# Altium footprint library SMCJ13CA.PCBLIB: 3 footprints
Each footprint in its own frame and in the unit in brackets; x right, y up, seen from the top. Pads: shape width x height; smd on the part's side, far side on the other; paste and mask are expansions set on the pad; w line width, h text height; cw(c..) or ccw(c..) is an arc to the next point about the centre after c.
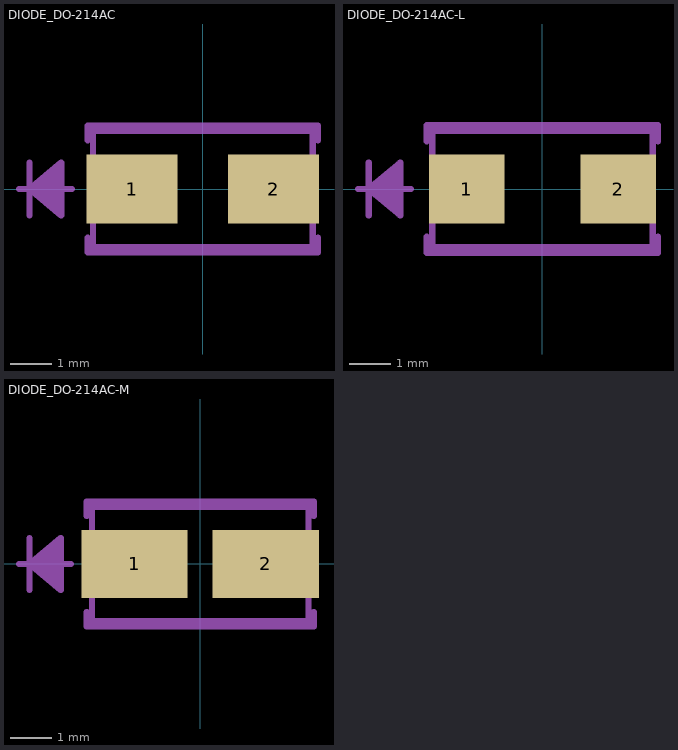
[diagram p0: the footprints below, top view; thin cyan lines are the x and y axes]

## DIODE_DO-214AC [mil]
pads (2):
  rect 86x65 smd: 1(-67,0) 2(67,0)
Mechanical 8:
  lines w6: -174,0 -164,0 ; -164,-25 -164,0 ; -164,25 -164,0 ; -134,-20 -164,0 ; -134,-15 -164,0 ; -134,-10 -164,0 ; -134,-5 -164,0 ; -134,5 -164,0 ; -134,10 -164,0 ; -134,15 -164,0 ; -134,20 -164,0 ; -124,0 -164,0 ; -164,0 -134,25 -134,-25 -164,0 ; -104,-55 104,-55 104,55 -104,55 -104,-55
Mechanical 22:
  lines w6: -174,0 -164,0 ; -164,-25 -164,0 ; -164,25 -164,0 ; -134,-20 -164,0 ; -134,-15 -164,0 ; -134,-10 -164,0 ; -134,-5 -164,0 ; -134,5 -164,0 ; -134,10 -164,0 ; -134,15 -164,0 ; -134,20 -164,0 ; -124,0 -164,0 ; -109,-46 -109,-60 109,-60 109,-46 ; -109,46 -109,60 109,60 109,46 ; -164,0 -134,25 -134,-25 -164,0

## DIODE_DO-214AC-L [mil]
pads (2):
  rect 71x65 smd: 1(-71.5,0) 2(71.5,0)
Mechanical 8:
  lines w6: -174,0 -164,0 ; -164,-25 -164,0 ; -164,25 -164,0 ; -134,-20 -164,0 ; -134,-15 -164,0 ; -134,-10 -164,0 ; -134,-5 -164,0 ; -134,5 -164,0 ; -134,10 -164,0 ; -134,15 -164,0 ; -134,20 -164,0 ; -124,0 -164,0 ; -164,0 -134,25 -134,-25 -164,0 ; -104,-55 104,-55 104,55 -104,55 -104,-55
Mechanical 22:
  lines w6: -174,0 -164,0 ; -164,-25 -164,0 ; -164,25 -164,0 ; -134,-20 -164,0 ; -134,-15 -164,0 ; -134,-10 -164,0 ; -134,-5 -164,0 ; -134,5 -164,0 ; -134,10 -164,0 ; -134,15 -164,0 ; -134,20 -164,0 ; -124,0 -164,0 ; -109,-45 -109,-60 109,-60 109,-45 ; -109,45 -109,60 109,60 109,45 ; -164,0 -134,25 -134,-25 -164,0

## DIODE_DO-214AC-M [mil]
pads (2):
  rect 102x65 smd: 1(-63,0) 2(63,0)
Mechanical 8:
  lines w6: -174,0 -164,0 ; -164,-25 -164,0 ; -164,25 -164,0 ; -134,-20 -164,0 ; -134,-15 -164,0 ; -134,-10 -164,0 ; -134,-5 -164,0 ; -134,5 -164,0 ; -134,10 -164,0 ; -134,15 -164,0 ; -134,20 -164,0 ; -124,0 -164,0 ; -164,0 -134,25 -134,-25 -164,0 ; -104,-55 104,-55 104,55 -104,55 -104,-55
Mechanical 22:
  lines w6: -174,0 -164,0 ; -164,-25 -164,0 ; -164,25 -164,0 ; -134,-20 -164,0 ; -134,-15 -164,0 ; -134,-10 -164,0 ; -134,-5 -164,0 ; -134,5 -164,0 ; -134,10 -164,0 ; -134,15 -164,0 ; -134,20 -164,0 ; -127,0 -164,0 ; -109,-46 -109,-60 109,-60 109,-46 ; -109,46 -109,60 109,60 109,46 ; -164,0 -134,25 -134,-25 -164,0